# EAGLE library part ZED_F9P (library GNSS-proto)
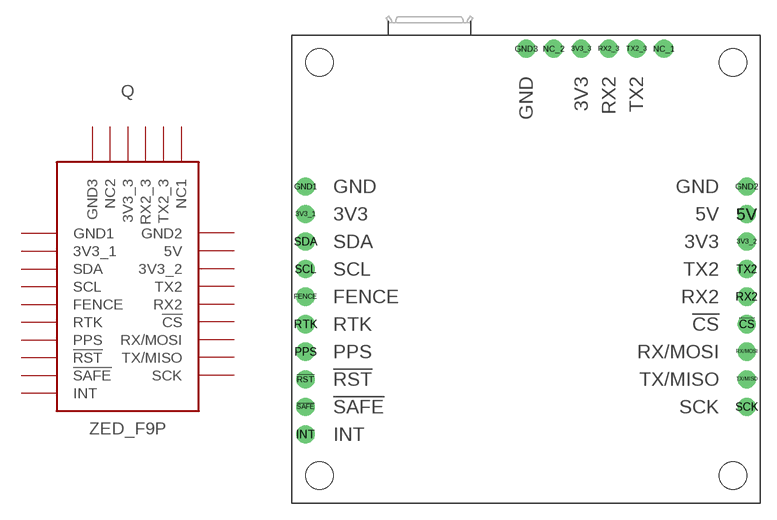
[diagram p1: symbol with the pads of ZED_F9P; footprint ZED_F9P]

Designator prefix Q

## ZED_F9P  [ZED_F9P]
3V3_1  3V3_1
3V3_2  3V3_2
3V3_3  3V3_3
5V  5V
!CS  !CS
!RST  !RST
!SAFE  !SAFE
FENCE  FENCE
GND1  GND1
GND2  GND2
GND3  GND3
INT  INT
NC_1  NC1
NC_2  NC2
PPS  PPS
RTK  RTK
RX2  RX2
RX2_3  RX2_3
RX/MOSI  RX/MOSI
SCK  SCK
SCL  SCL
SDA  SDA
TX2  TX2
TX2_3  TX2_3
TX/MISO  TX/MISO

## Footprint ZED_F9P (pad centres in mm)
drill 1 pad 1.676: 3V3_1 1.27,26.67; 3V3_2 41.91,24.13; 3V3_3 26.67,41.91; 5V 41.91,26.67; !CS 41.91,16.51; !RST 1.27,11.43; !SAFE 1.27,8.89; FENCE 1.27,19.05; GND1 1.27,29.21; GND2 41.91,29.21; GND3 21.59,41.91; INT 1.27,6.35; NC_1 34.29,41.91; NC_2 24.13,41.91; PPS 1.27,13.97; RTK 1.27,16.51; RX2 41.91,19.05; RX2_3 29.21,41.91; RX/MOSI 41.91,13.97; SCK 41.91,8.89; SCL 1.27,21.59; SDA 1.27,24.13; TX2 41.91,21.59; TX2_3 31.75,41.91; TX/MISO 41.91,11.43
hole 2.54 at 2.54,2.54
hole 2.54 at 2.54,40.64
hole 2.54 at 40.64,40.64
hole 2.54 at 40.64,2.54